# EAGLE library part TI_TPS55330 (library components)
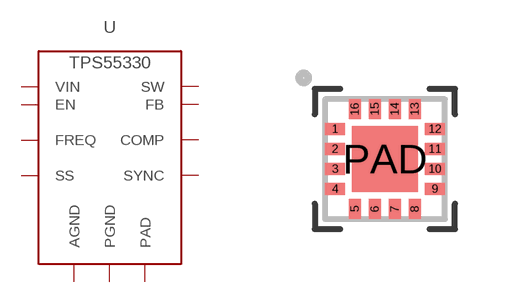
[diagram p1: symbol with the pads of S-PWQFN-N16; footprint S-PWQFN-N16]

Designator prefix U

## TI_TPS55330  [S-PWQFN-N16]
1  SW  pas
2  VIN  pas
3  EN  pas
4  SS  pas
5  SYNC  pas
6  AGND  pas
7  COMP  pas
8  FB  pas
9  FREQ  pas
11  PGND  pas
12  PGND  pas
13  PGND  pas
15  SW  pas
16  SW  pas
PAD  PAD

## Footprint S-PWQFN-N16 (pad centres in mm)
smd 0.5 x 0.3: 1 -1.25,0.75; 2 -1.25,0.25; 3 -1.25,-0.25; 4 -1.25,-0.75; 9 1.25,-0.75; 10 1.25,-0.25; 11 1.25,0.25; 12 1.25,0.75
smd 0.3 x 0.5: 5 -0.75,-1.25; 6 -0.25,-1.25; 7 0.25,-1.25; 8 0.75,-1.25; 13 0.75,1.25; 14 0.25,1.25; 15 -0.25,1.25; 16 -0.75,1.25
smd 1.65 x 1.65: PAD 0,0